# Altium footprint library sot23-6.PcbLib: 1 footprints
Each footprint in its own frame and in the unit in brackets; x right, y up, seen from the top. Pads: shape width x height; smd on the part's side, far side on the other; paste and mask are expansions set on the pad; w line width, h text height; cw(c..) or ccw(c..) is an arc to the next point about the centre after c.
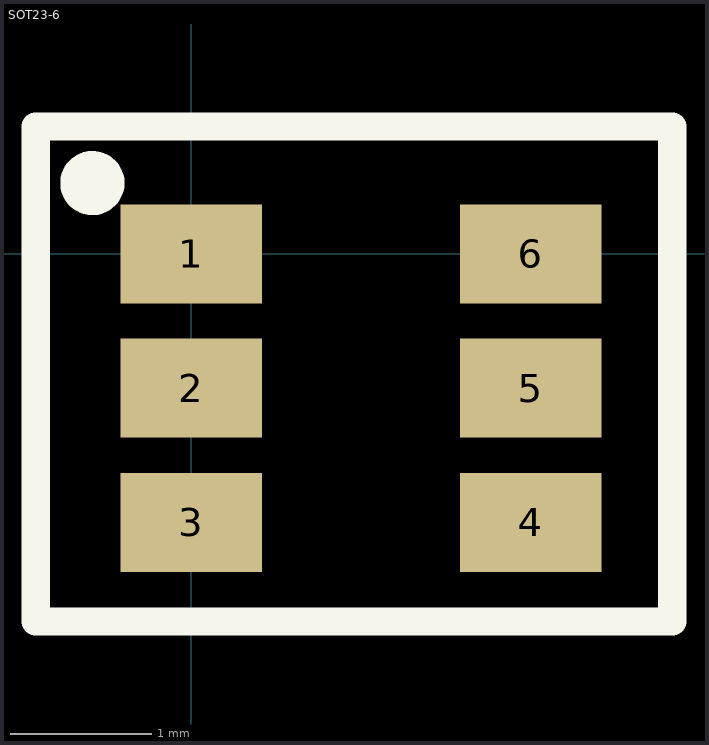
[diagram p0: the footprint, top view; thin cyan lines are the x and y axes]

## SOT23-6 [mm]
pads (6):
  rect 1x0.7 smd: 1(0,0) 2(0,-0.95) 3(0,-1.9) 4(2.4,-1.9) 5(2.4,-0.95) 6(2.4,0)
Top Overlay:
  circle w0.254: c-0.7,0.5 r0.1
  lines w0.2: -1.1,-2.6 3.4,-2.6 3.4,0.9 -1.1,0.9 -1.1,-2.6
3D body: height 1.45, standoff 0, extent -0.15,-2.425 2.65,0.475